# Altium footprint library u_SO-8.PcbLib: 1 footprints
Each footprint in its own frame and in the unit in brackets; x right, y up, seen from the top. Pads: shape width x height; smd on the part's side, far side on the other; paste and mask are expansions set on the pad; w line width, h text height; cw(c..) or ccw(c..) is an arc to the next point about the centre after c.
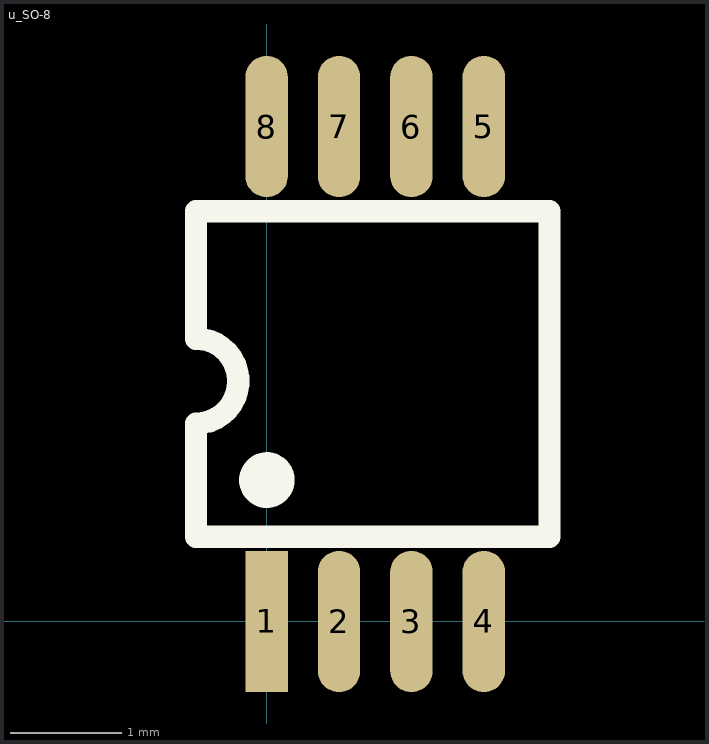
[diagram p0: the footprint, top view; thin cyan lines are the x and y axes]

## u_SO-8 [mil]
pads (8):
  rect 15x50 smd: 1(0,0)
  oval 15x50 smd: 2(25.59,0) 3(51.18,0) 4(76.77,0) 5(76.77,175) 6(51.18,175) 7(25.59,175) 8(0,175)
Top Overlay:
  circle w9.84: c0.08,50 r4.92
  lines w7.87: -25,30 -25,70 ccw(c-25,85) -25,100 -25,145 100,145 100,30 -25,30
3D body: height 44, standoff 0, extent -25,25 100,150